# Altium schematic symbol library PCM2706 Bus Powered USB DAC 4.SCHLIB: 11 symbols
Pins are listed as number, name and electrical type; pins without a type are passive.

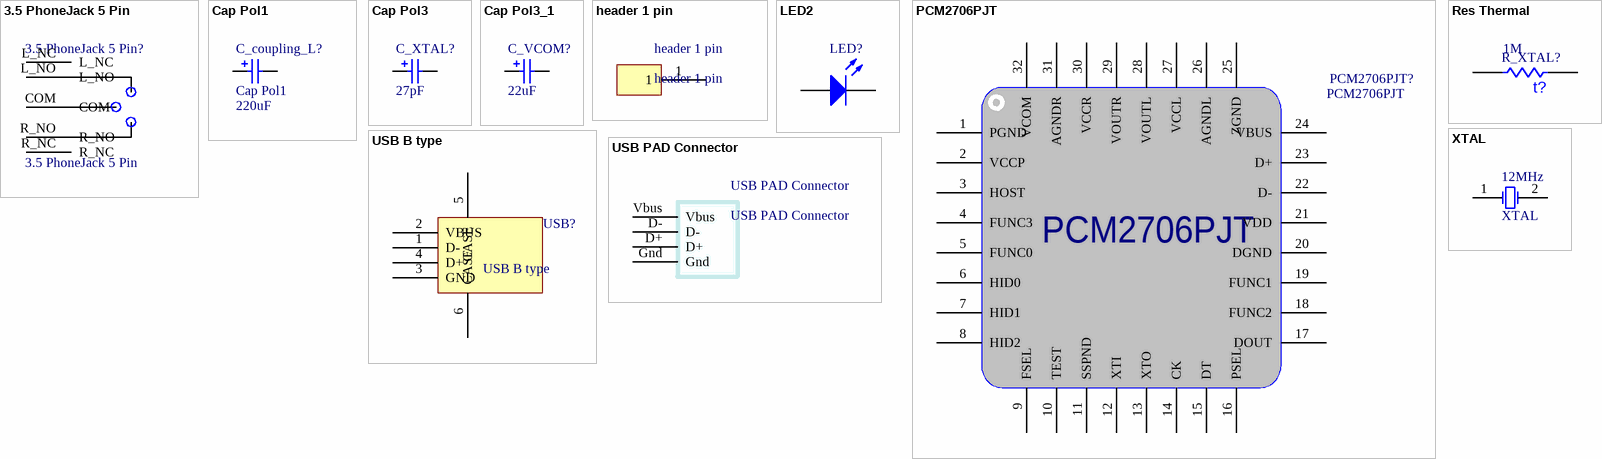
[diagram p0: symbols 3.5 PhoneJack 5 Pin to XTAL]

## 3.5 PhoneJack 5 Pin
designator 3.5 PhoneJack 5 Pin?
footprint 3.5 PhoneJack 5 Pin
pins: COM, L_NC, L_NO, R_NC, R_NO

## Cap Pol1
designator C_coupling_L?  value 220uF
Polarized Capacitor (Radial); Published: 8-Jun-2000; LatestRevisionDate: 17-Jul-2002; LatestRevisionNote: Re-released for DXP Platform.; PackageReference: RB7.6-15; Publisher: Altium Limited; PackageDescription: Polarized Capacitor (Radial); 2 Leads
footprint RB5-10.5_narrowed (Capacitor (Radial); 2 Leads)
simulation model CAP (Capacitor)
signal-integrity model Cap Pol
pins: 1, 2
1 alternate drawing of the same symbol

## Cap Pol3
designator C_XTAL?  value 27pF
Polarized Capacitor (Surface Mount); Published: 8-Jun-2000; LatestRevisionDate: 29-May-2009; LatestRevisionNote: IPC-7351 Footprint Added.; PackageReference: C0805; Publisher: Altium Limited; PackageDescription: Chip Capacitor
footprint C0805 (Chip Capacitor, Body 2.0x1.3mm, IPC High Density)
footprint 1812 (Chip Capacitor, Body 4.5x3.2mm, IPC High Density)
footprint 1825 (Chip Capacitor, Body 4.5x6.4mm, IPC High Density)
footprint C2225 (Chip Capacitor, Body 5.7x6.4mm, IPC High Density)
footprint 2220 (Chip Capacitor, Body 5.7x5.0mm, IPC High Density)
simulation model CAP (Capacitor)
signal-integrity model Cap Pol
pins: 1, 2
1 alternate drawing of the same symbol

## Cap Pol3_1
designator C_VCOM?  value 22uF
Polarized Capacitor (Surface Mount); Published: 8-Jun-2000; LatestRevisionDate: 29-May-2009; LatestRevisionNote: IPC-7351 Footprint Added.; PackageReference: C0805; Publisher: Altium Limited; PackageDescription: Chip Capacitor
footprint Tantalum 6032-28 case C kemet
footprint 1812 (Chip Capacitor, Body 4.5x3.2mm, IPC High Density)
footprint 1825 (Chip Capacitor, Body 4.5x6.4mm, IPC High Density)
footprint C2225 (Chip Capacitor, Body 5.7x6.4mm, IPC High Density)
footprint 2220 (Chip Capacitor, Body 5.7x5.0mm, IPC High Density)
simulation model CAP (Capacitor)
signal-integrity model Cap Pol
pins: 1, 2
1 alternate drawing of the same symbol

## header 1 pin
designator header 1 pin
footprint Header 1 pin
pins: 1

## LED2
designator LED?
Typical RED, GREEN, YELLOW, AMBER GaAs LED; Published: 8-Jun-2000; LatestRevisionDate: 17-Jul-2002; LatestRevisionNote: Re-released for DXP Platform.; PackageVersion: Feb-2002; PackageReference: 3.2X1.6X1.1; Publisher: Altium Limited; PackageDescription: SM LED; 2 Flat Leads
simulation model LED2 (Diode)
footprint 6-0805_N_enlarge (Chip Resistor, Body 2.0x1.2mm, IPC Medium Density)
pins: 1 A, 2 K

## PCM2706PJT
designator PCM2706PJT?
footprint PCM2706PJT_2
footprint S-PQFP-N32-2mm-out
footprint TQFP80P900X900X120-32N (TQFP, 32-Leads, Body 9.0x9.0mm (max), Pitch 0.80mm, IPC Medium Density)
pins: 1 PGND, 2 VCCP, 3 HOST, 4 FUNC3, 5 FUNC0, 6 HID0, 7 HID1, 8 HID2, 9 FSEL, 10 TEST, 11 SSPND, 12 XTI, 13 XTO, 14 CK, 15 DT, 16 PSEL, 17 DOUT, 18 FUNC2, 19 FUNC1, 20 DGND, 21 VDD, 22 D-, 23 D+, 24 VBUS, 25 ZGND, 26 AGNDL, 27 VCCL, 28 VOUTL, 29 VOUTR, 30 VCCR, 31 AGNDR, 32 VCOM

## Res Thermal
designator R_XTAL?, comment 1M
Thermistor; Published: 24-Mar-1999; LatestRevisionDate: 29-May-2009; LatestRevisionNote: IPC-7351 Footprint Added.; PackageVersion: Mar-2003; PackageReference: 6-0805; Publisher: Altium Limited; PackageDescription: Chip Resistor 0805 Case Size; Code_IPC: RESC2012
footprint 6-0805_N (Chip Resistor, Body 2.0x1.2mm, IPC Medium Density)
footprint 6-0805_L (Chip Resistor, Body 2.0x1.2mm, IPC High Density)
footprint 6-0805_M (Chip Resistor, Body 2.0x1.2mm, IPC Low Density)
pins: 1, 2
text: t?

## USB B type
designator USB?
footprint USB2.5-2H4D (Connector; USB1.1, Type B, Thru-Hole; 4 Position; Right Angle)
footprint USB A PAD Connector
pins: 1 D-, 2 VBUS, 3 GND, 4 D+, 5 CASE, 6 CASE

## USB PAD Connector
designator USB PAD Connector
footprint USB A PAD Connector
pins: D+, D-, Gnd, Vbus

## XTAL
designator 12MHz
Crystal Oscillator; Published: 8-Jun-2000; LatestRevisionDate: 17-Jul-2002; LatestRevisionNote: Re-released for DXP Platform.; PackageReference: R38; Publisher: Altium Limited; PackageDescription: Crystal, Thru-Hole; 2 Leads; Body 3.1 x 8.2 mm (Dia.xH)
footprint 12MHz Crystal OSC through hole
simulation model XTAL (Spice Subcircuit)
footprint CAPM5032X13N (Molded Capacitor, 2-Leads, Body 5.0x3.2mm, IPC Medium Density)
pins: 1 OSC1, 2 OSC2